# Altium schematic symbol library RF Components.SchLib: 18 symbols
Pins are listed as number, name and electrical type; pins without a type are passive.

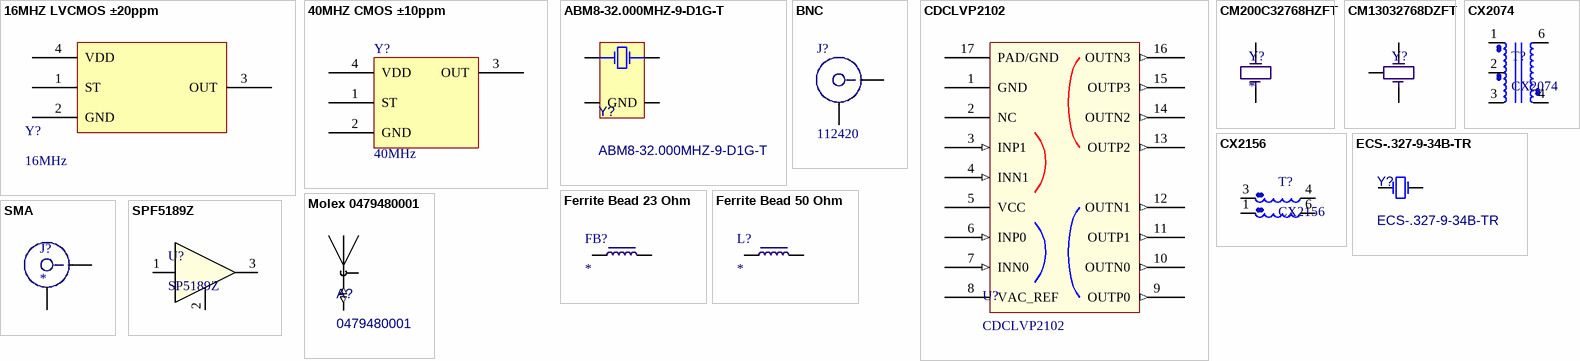
[diagram p0: symbols 16MHZ LVCMOS ±20ppm to SPF5189Z]

## 16MHZ LVCMOS ±20ppm
designator Y?, comment 16MHz
OSC MEMS 16.0000MHZ LVCMOS SMD; Manufacturer: SiTIME; Manufacturer Part Number: SIT8008BI-71-33S-16.000000G; Frequency Stability: ±20ppm; Current - Supply (Max): 4.5mA; Operating Temperature: -40°C ~ 85°C; Output: LVCMOS; Supplier 1: Digi-Key; Supplier Part Number 1: 1473-30746-1-ND
footprint SiT8008B (2.0 x 1.6 x 0.75 mm)
pins: 1 ST, 2 GND, 3 OUT, 4 VDD

## 40MHZ CMOS ±10ppm
designator Y?, comment 40MHz
OSC MEMS 40.0000MHZ 1.8-3.3V 2016 SMD 15pF Load; Frequency Stability: ±10ppm; Current - Supply (Max): 4.5mA; Output: CMOS; Operating Temperature: -40°C ~ 85°C; Supplier 3: LCSC; Supplier Part Number 3: C669085
footprint SiT8008B (2.0 x 1.6 x 0.75 mm)
pins: 1 ST, 2 GND, 3 OUT, 4 VDD

## ABM8-32.000MHZ-9-D1G-T
designator Y?
32 MHz ±10ppm Crystal 9pF 40 Ohms 4-SMD, No Lead; Frequency: 32MHz; Supplier 1: Digikey; Supplier 2: Mouser; Supplier Part Number 1: 535-15019-1-ND; Supplier Part Number 2: 815-M832000MHZ9D1GT
footprint XTAL_ABM8-32.000MHz-9-D1G-T
pins: 1, 2 GND, 3, 4 GND

## BNC
designator J?, comment 112420
BNC Connector Plug, Male Pin 50Ohm Panel Mount Solder Cup; Supplier 1: Digi-Key; Supplier 2: Mouser; Supplier Part Number 1: ACX1407-ND; Supplier Part Number 2: 523-112420
footprint BNC_Plug, Male Pin Panel Mount (BNC Connector Plug, Male Pin 50Ohm Panel Mount Solder Cup)
pins: C, G

## CDCLVP2102
designator U?
Clock Fanout Buffer (Distribution) IC 2:4 2 16-VFQFN; Supplier 1: Digi-Key; Supplier 2: Mouser; Supplier Part Number 1: 296-25284-1-ND; Supplier Part Number 2: 595-CDCLVP2102RGTT
footprint VQFN16 (16 pin QFN with thermal pad, 3x3mm)
pins: 1 GND (power), 2 NC, 3 INP1 (in), 4 INN1 (in), 5 VCC (power), 6 INP0 (in), 7 INN0 (in), 8 VAC_REF, 9 OUTP0 (out), 10 OUTN0 (out), 11 OUTP1 (out), 12 OUTN1 (out), 13 OUTP2 (out), 14 OUTN2 (out), 15 OUTP3 (out), 16 OUTN3 (out), 17 PAD/GND (power)

## CM200C32768HZFT
designator Y?
CRYSTAL 32.7680KHZ 12.5PF SMD; Frequency: 32.768kHz; Frequency Tolerance: ±5ppm; Load Capacitance: 12.5pF; Operating Temperature: -40°C ~ 85°C; Supplier 1: Digi-Key; Supplier Part Number 1: 300-8742-1-ND
footprint CM200C (CRYSTAL 32.7680KHZ 12.5PF SMD)
pins: 1, 4

## CM13032768DZFT
designator Y?, comment XTAL  (value not drawn)
32.768kHz ±20ppm Crystal 12.5pF 65 kOhm -40°C ~ 85°C Surface Mount 4-SMD, Flat Lead (3 Leads); Supplier 1: Digi-Key; Supplier Part Number 1: 300-8039-2-ND
footprint CM130 (3 terminal crystal oscillator)
pins: 1, 2, 3

## CX2074
designator T?
Balun, Voltage-Mode, 1:4 impedance ratio, 1-500 MHz, 0.6 dB insertion loss; Supplier 1: Digi-Key; Supplier Part Number 1: 553-1655-ND
footprint CX2074
pins: 1 (power), 2 (power), 3 (power), 4 (power), 6 (power)

## CX2156
designator T?
Balun, Current-Mode, 0.2 dB Insertion Loss, 2.7-2700 MHz operating range; Supplier 1: Digi-Key; Supplier Part Number 1: 553-1499-ND
footprint CX2156NL
pins: 1 (power), 3 (power), 4 (power), 6 (power)

## ECS-.327-9-34B-TR
designator Y?
32.768 kHz ±20ppm Crystal 9pF 70 kOhms 2-SMD, No Lead; Supplier 1: Digikey; Supplier 2: Mouser; Supplier Part Number 1: 50-ECS-.327-9-34B-TRCT-ND; Supplier Part Number 2: 520-ECS-.327-9-34B-T; Frequency: 32.768kHz
footprint XTAL_ECS-.327-9-34B-TR
pins: 1, 2

## Ferrite Bead 23 Ohm
designator FB?
FERRITE BEAD 23 OHM 0603 1LN; Impedance @ Frequency: 23 Ohms @ 100MHz; Current Rating (Max): 4A; DC Resistance (DCR) (Max): 7 mOhm; Operating Temperature: -40°C ~ 125°C; Supplier 1: Digi-Key; Supplier Part Number 1: 587-1762-1-ND
footprint R0603-IPC
pins: 1, 2

## Ferrite Bead 50 Ohm
designator L?
Impedance @ Frequency: 50 Ohms @ 100MHz; Current Rating (Max): 3.5A; DC Resistance (DCR) (Max): 15 mOhm; Filter Type: Power Line; Supplier 1: Digi-Key; Supplier Part Number 1: 490-1055-1-ND; Operating Temperature: -55°C ~ 125°C
footprint R1206-IPC
pins: 1, 2

## Molex 0479480001
designator A?, comment 0479480001
2.4GHz Bluetooth, WLAN, Zigbee™ Chip RF Antenna 2.4GHz ~ 2.483.5GHz 3dBi Solder Surface Mount; Supplier 1: Digi-Key; Supplier 2: Mouser; Supplier Part Number 2: 538-47948-0001; Supplier Part Number 1: WM4893CT-ND
footprint 0479480001 (Molex 0479480001 2.4GHz Chip Antenna)
pins: 1 FEED (io), 2 (power)

## SMA
designator J?
SMA Connector; Supplier 1: Digi-Key; Supplier Part Number 1: A97594-ND
footprint SMA_CONN
pins: C, G

## SPF5189Z
designator U?, comment SP5189Z
RF Amplifier .05-4GHz SSG 12.8dB NF .8dB GaAs; Supplier 2: Mouser; Supplier Part Number 2: 772-SPF5189Z
footprint SOT-89 (Footprint not found)
pins: 1 RFIN, 2 GND, 3 RFOUT/DCBIAS

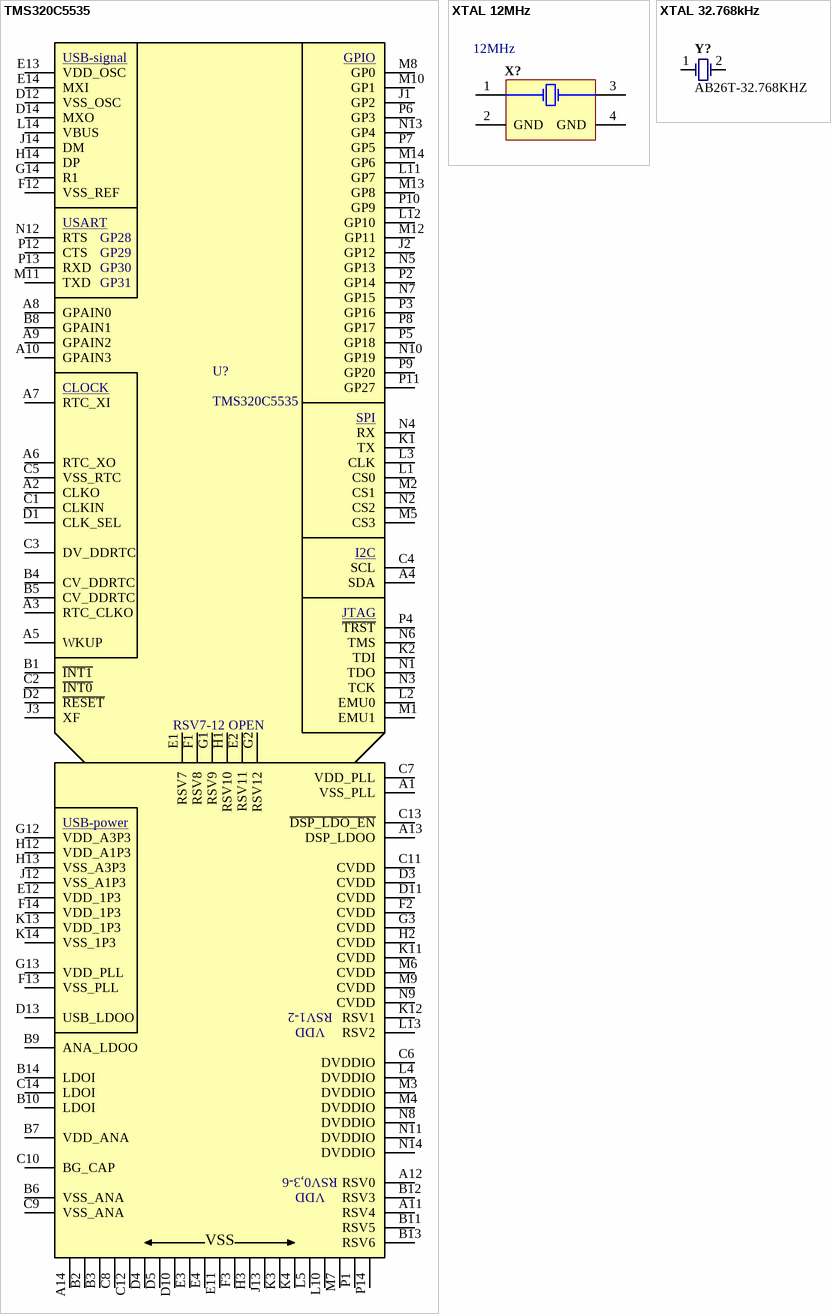
[diagram p1: symbols TMS320C5535 to XTAL 32.768kHz]

## TMS320C5535
designator U?
IC DSP FIXED-POINT 144BGA; Manufacturer: Texas Instruments; Manufacturer Part Number: TMS320C5535AZHHA10; Last Edited By: Russell Burge; Last Edited On: 3/12/2016; Supplier: Digikey; Supplier Part Number: 296-29562-ND; Supplier 1: Digi-Key; Supplier Part Number 1: 296-29562-ND
pins: A1 VSS_PLL, A2 CLKO, A3 RTC_CLKO, A4 SDA, A5 WKUP, A6 RTC_XO, A7 RTC_XI, A8 GPAIN0, A9 GPAIN2, A10 GPAIN3, A11 RSV4, A12 RSV0, A13 DSP_LDOO, A14 VSS, B1 ~{INT1}, B2 VSS, B3 VSS, B4 CV_DDRTC, B5 CV_DDRTC, B6 VSS_ANA, B7 VDD_ANA, B8 GPAIN1, B9 ANA_LDOO, B10 LDOI, B11 RSV5, B12 RSV3, B13 RSV6, B14 LDOI, C1 CLKIN, C2 ~{INT0}, C3 DV_DDRTC, C4 SCL, C5 VSS_RTC, C6 DVDDIO, C7 VDD_PLL, C8 VSS, C9 VSS_ANA, C10 BG_CAP, C11 CVDD, C12 VSS, C13 ~{DSP_LDO_EN}, C14 LDOI, D1 CLK_SEL, D2 ~{RESET}, D3 CVDD, D4 VSS, D5 VSS, D10 VSS, D11 CVDD, D12 VSS_OSC, D13 USB_LDOO, D14 MXO, E1 RSV7, E2 RSV11, E3 VSS, E4 VSS, E11 VSS, E12 VDD_1P3, E13 VDD_OSC, E14 MXI, F1 RSV8, F2 CVDD, F3 VSS, F12 VSS_REF, F13 VSS_PLL, F14 VDD_1P3, G1 RSV9, G2 RSV12, G3 CVDD, G12 VDD_A3P3, G13 VDD_PLL, G14 R1, H1 RSV10, H2 CVDD, H3 VSS, H12 VDD_A1P3, H13 VSS_A3P3, H14 DP, J1 GP2, J2 GP12, J3 XF, J12 VSS_A1P3, J13 VSS, J14 DM, K1 TX, K2 TDI, K3 VSS, K4 VSS, K11 CVDD, K12 RSV1, K13 VDD_1P3, K14 VSS_1P3, L1 CS0, L2 EMU0, L3 CLK, L4 DVDDIO, L5 VSS, L10 VSS, L11 GP7, L12 GP10, L13 RSV2, L14 VBUS, M1 EMU1, M2 CS1, M3 DVDDIO, M4 DVDDIO, M5 CS3, M6 CVDD, M7 VSS, M8 GP0, M9 CVDD, M10 GP1, M11 TXD, M12 GP11, M13 GP8, M14 GP6, N1 TDO, N2 CS2, N3 TCK, N4 RX, N5 GP13, N6 TMS, N7 GP15, N8 DVDDIO, N9 CVDD, N10 GP19, N11 DVDDIO, N12 RTS, N13 GP4, N14 DVDDIO, P1 VSS, P2 GP14, P3 GP16, P4 ~{TRST}, P5 GP18, P6 GP3, P7 GP5, P8 GP17, P9 GP20, P10 GP9, P11 GP27, P12 CTS, P13 RXD, P14 VSS
text: USB-signal; GPIO; USART; GP28; GP29; GP30; GP31; CLOCK; SPI; I2C; JTAG; RSV7-12 OPEN; USB-power; RSV1-2; VDD; RSV0,3-6

## XTAL 12MHz
designator X?, comment Frequency: 12MHz  (hidden comment: ABM8G-12.000MHZ-18-D2Y-T)
Ultra Miniature Ceramic Glass Sealed SMD Cryastal, 12 MHz, 18 pF, +/- 20 ppm, -40 to 85 degC, 4-Pin SMD, RoHS, Tape and Reel; Brand: ABRACON; ESR: 120Ohms; Case Length: 3.2mm; Tolerance: 20PPM; Frequency Stability: 30PPM; Case Height: 1mm; Case Width: 2.5mm; Load Capacitance: 18pF; Termination Style: SMD/SMT; Mounting Style: SMD/SMT; Factory Pack Quantity: 1000; Series: ABM8G; Datasheet Version: Apr-17; Manufacturer: ABRACON; Packaging: Reel; Manufacturer URL: http://www.abracon.com/; RoHS: Details; Package / Case: 3.2mmx2.5mm; Type: UltraMiniatureGlassSealedCrystal; Datasheet URL: https://datasheet.ciiva.com/15116/getdatasheetpartid-719790-15116701.pdf; Operating Temperature Range: -40Cto+85C; Product Category: Crystals; Dimensions: 2.5mmWx3.2mmLx1mmH
footprint ABRACON_ABM8G_V (SMD, 4-Leads, Body 2.6x3.3mm)
pins: 1 X1, 2 GND (power), 3 X2, 4 GND (power)

## XTAL 32.768kHz
designator Y?, comment AB26T-32.768KHZ
Crystal, 12.5 pF, 32.768 KHz, -10 to 60 degC, 2-Pin THD, RoHS, Bulk; Manufacturer: ABRACON; ESR: 35kOhms; Frequency Stability: -0.034PPM; Load Capacitance: 12.5pF; Tolerance: 20PPM; Case Length: 6.2mm; Case Diameter: 2.1mm; RoHS: Details; Product Category: Crystals; Type: WatchCrystal; Manufacturer URL: http://www.abracon.com/; Operating Temperature Range: -10Cto+60C; Package Description: 2-Pin Through Hole Device, Dia 2.1 mm, Body Length 6.2 mm; Termination Style: Radial; Datasheet Version: 06/2010; Datasheet URL: http://www.abracon.com/Resonators/AB26T.pdf; Packaging: Bulk; Factory Pack Quantity: 500; Brand: ABRACON; Mounting Technology: ThroughHole; Package URL: http://www.abracon.com/Support/PackageDrawing/Resonators/AB26T.PDF; Package / Case: Cylinder; Lead Spacing: 0.8mm; Dimensions: 2.1mmDia.x6.2mmL; Mounting Style: ThroughHole; Frequency: 32.768kHz; Package Reference: AB26T; Series: AB26T; Manufacturer: Abracon; Manufacturer Part Number: AB26T-32.768KHZ; Supplier 1: Digi-Key; Supplier 2: Mouser; Supplier Part Number 1: 535-9032-ND; Supplier Part Number 2: 815-AB26T-32.768KHZ
footprint ABRA-AB26T (THD, 2-Leads, Dia 2.1mm, Body Length 6.2mm)
pins: 1, 2